# Altium footprint library PMSM.PcbLib: 22 footprints (part 2 of 2)
Each footprint in its own frame and in the unit in brackets; x right, y up, seen from the top. Pads: shape width x height; smd on the part's side, far side on the other; paste and mask are expansions set on the pad; w line width, h text height; cw(c..) or ccw(c..) is an arc to the next point about the centre after c.
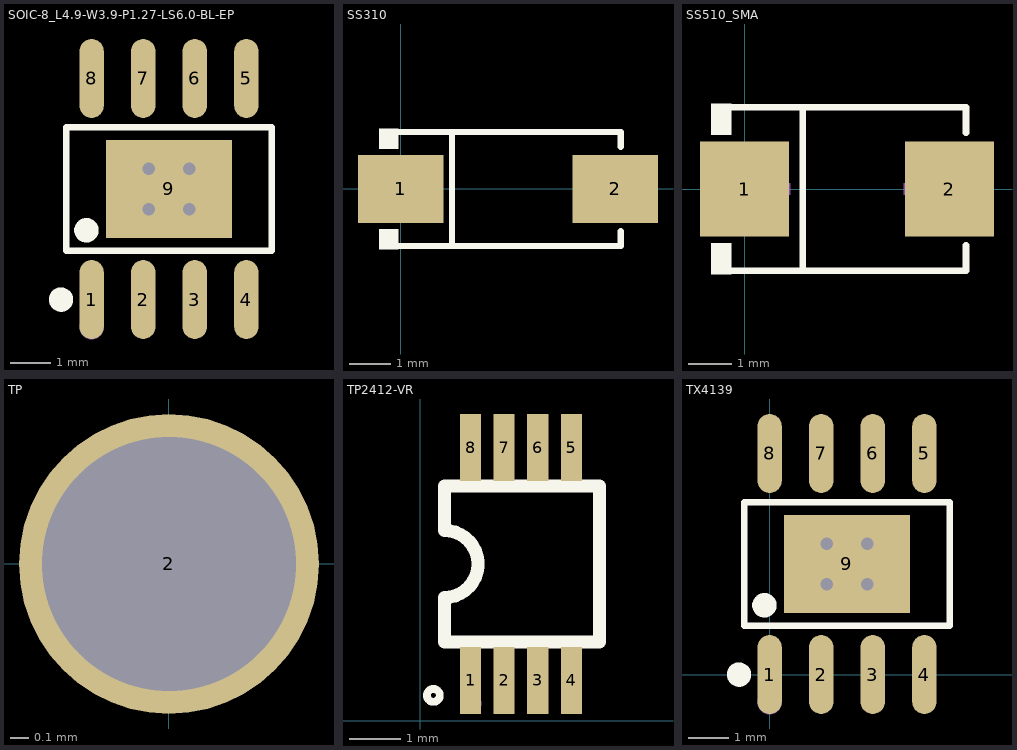
[diagram p1: the footprints below, top view; thin cyan lines are the x and y axes]

## SOIC-8_L4.9-W3.9-P1.27-LS6.0-BL-EP [mm]
pads (9):
  oval 0.602x1.941 smd: 1(452.468,-442.989) 2(453.738,-442.989) 3(455.008,-442.989) 4(456.278,-442.989) 5(456.278,-437.548) 6(455.008,-437.548) 7(453.738,-437.548) 8(452.468,-437.548)
  rect 3.098x2.41 smd: 9(454.373,-440.268)
via 454.873,-440.768 diameter 0.61 hole 0.305
via 453.873,-440.768 diameter 0.61 hole 0.305
via 454.873,-439.768 diameter 0.61 hole 0.305
via 453.873,-439.768 diameter 0.61 hole 0.305
Top Overlay:
  circle w0.3: c451.715,-442.989 r0.15
  circle w0.3: c452.341,-441.284 r0.15
  lines w0.152: 451.847,-441.79 456.899,-441.79 456.899,-438.747 451.847,-438.747 451.847,-441.79
Mechanical 15:
  circle w0.3: c452.468,-443.668 r0.15

## SS310 [mm]
pads (2):
  rect 2.046x1.62 smd: 1(0,0) 2(5.131,0)
Top Overlay:
  region: -0.059,-1.44 -0.059,-0.962 -0.517,-0.962 -0.517,-1.44
  region: -0.059,1.44 -0.059,0.962 -0.517,0.962 -0.517,1.44
  lines w0.152: -0.136,-1.364 5.267,-1.364 5.267,-1.013 ; -0.136,1.364 5.267,1.364 5.267,1.013 ; 1.227,-1.364 1.227,1.364
Mechanical 15:
  region: 4.708,-0.644 4.708,0.644 4.515,0.644 4.515,-0.644
  region: 4.997,-0.097 4.997,0.097 4.225,0.097 4.225,-0.097
  region: 0.134,-0.097 0.134,0.097 0.906,0.097 0.906,-0.097

## SS510_SMA [mm]
pads (2):
  rect 2.047x2.192 smd: 1(0,0) 2(4.722,0)
Top Overlay:
  region: -0.307,-1.962 -0.307,-1.249 -0.764,-1.249 -0.764,-1.962
  region: -0.307,1.962 -0.307,1.249 -0.764,1.249 -0.764,1.962
  lines w0.152: -0.383,-1.886 5.104,-1.886 5.104,-1.299 ; -0.383,1.886 5.104,1.886 5.104,1.299 ; 1.345,-1.886 1.345,1.886
Mechanical 15:
  region: 4.349,-0.905 4.349,0.905 4.078,0.905 4.078,-0.905
  region: 4.757,-0.136 4.757,0.136 3.671,0.136 3.671,-0.136
  region: -0.035,-0.136 -0.035,0.136 1.051,0.136 1.051,-0.136

## TP [mil]
pads (1):
  round 65 hole 55: 2(0,0)

## TP2412-VR [mm]
pads (8):
  rect 0.406x1.3 smd: 1(0.971,0.777) 2(1.621,0.777) 3(2.271,0.777) 4(2.921,0.777) 5(2.921,5.277) 6(2.271,5.277) 7(1.621,5.277) 8(0.971,5.277)
Top Overlay:
  lines w0.15: 0.251,0.612 ccw(c0.252,0.487) 0.253,0.612
  lines w0.254: 0.465,1.516 3.465,1.516 3.465,4.516 ; 0.468,1.516 0.468,2.379 ccw(c0.468,3.027) 0.468,3.675 0.468,4.538 3.468,4.538
Mechanical 15:
  circle w0.2: c0.983,0.327 r0.1

## TX4139 [mm]
pads (9):
  oval 0.602x1.941 smd: 1(0,0) 2(1.27,0) 3(2.54,0) 4(3.81,0) 5(3.81,5.441) 6(2.54,5.441) 7(1.27,5.441) 8(0,5.441)
  rect 3.098x2.41 smd: 9(1.905,2.72)
via 2.405,2.22 diameter 0.61 hole 0.305
via 1.405,2.22 diameter 0.61 hole 0.305
via 2.405,3.22 diameter 0.61 hole 0.305
via 1.405,3.22 diameter 0.61 hole 0.305
Top Overlay:
  circle w0.3: c-0.753,0 r0.15
  circle w0.3: c-0.127,1.704 r0.15
  lines w0.152: -0.621,1.199 4.431,1.199 4.431,4.242 -0.621,4.242 -0.621,1.199
Mechanical 15:
  circle w0.3: c0,-0.68 r0.15